# Altium schematic symbol library Schematic_Library_Warga.SchLib: 39 symbols
Pins are listed as number, name and electrical type; pins without a type are passive.

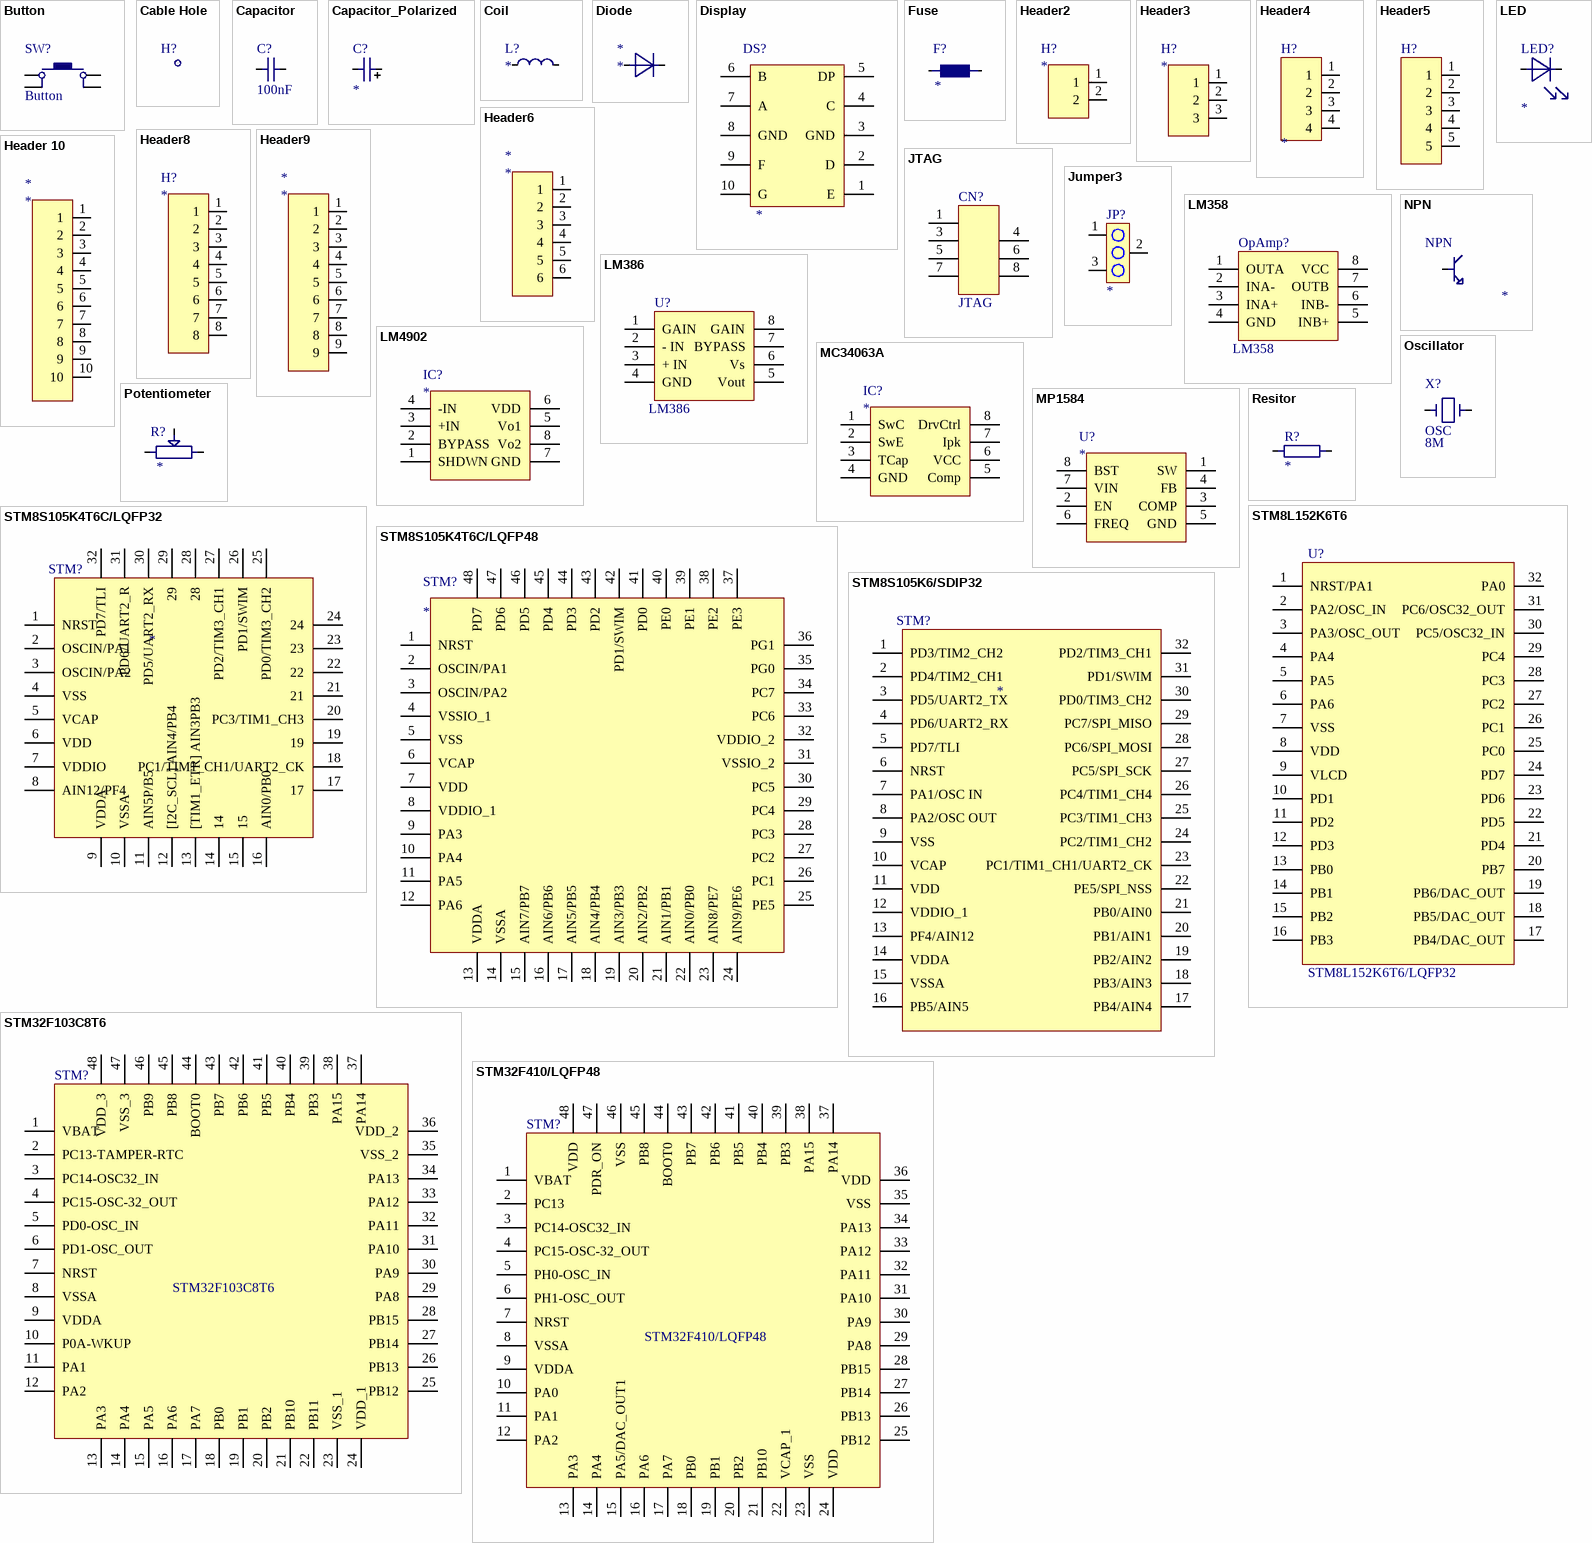
[diagram p0: symbols Button to STM32F410/LQFP48]

## Button
designator SW?
footprint TL1105 (Tactical Switch 6x6mm)
pins: 1, 1, 2, 2

## Cable Hole
designator H?
footprint Hole 1mm
pins: 1

## Capacitor
designator C?, comment 100nF
Capacitance: 100nF
footprint GRM188 (Chip Capacitor, 2-Leads, Body 1,60x0,80mm, IPC Medium Density)
footprint WurthElektronik88501206051
footprint VJ0603 (Chip Capacitor, 2-Leads, Body 1,60x0,80mm, IPC Medium Density)
footprint Capacitor 0.7mm unipol
pins: 1, 2

## Capacitor_Polarized
designator C?
Capacitance: *
pins: 1, 2

## Coil
designator L?
Inductance: *
footprint TYS6045331M (Chip Inductor, 2-Leads, Body 6,00x6,00mm, IPC Medium Density)
pins: 1, 2

## Diode
designator *
footprint DIODES-INCORPORATED_1N5819 (SODFL, 2-Leads, Body 1,55x3,70mm, IPC Medium Density)
pins: 1, 2

## Display
designator DS?
footprint HDSP-513A (7-segment LED display)
pins: 1 E, 2 D, 3 GND, 4 C, 5 DP, 6 B, 7 A, 8 GND, 9 F, 10 G

## Fuse
designator F?
IN: *
footprint RESC0603X04N (Chip Resistor, 2-Leads, Body 0,60x0,30mm, IPC Medium Density)
pins: 0, 1

## Header2
designator H?
footprint M20-97702 (Tactical Switch 6x6mm)
pins: 1, 2

## Header3
designator H?
pins: 1, 2, 3

## Header4
designator H?
footprint M20-97704 (4x1mm holes 2.54mm pitch)
pins: 1, 2, 3, 4

## Header5
designator H?  (value not drawn)
footprint M20-97705 (5x1mm holes 2.54mm pitch)
pins: 1, 2, 3, 4, 5

## Header6
designator *
pins: 1, 2, 3, 4, 5, 6

## Header8
designator H?
pins: 1, 2, 3, 4, 5, 6, 7, 8

## Header9
designator *
pins: 1, 2, 3, 4, 5, 6, 7, 8, 9

## Header 10
designator *
pins: 1, 2, 3, 4, 5, 6, 7, 8, 9, 10

## JTAG
designator CN?
footprint JTAG (2x4x1mm holes 2.54mm pitch)
pins: 1, 3, 4, 5, 6, 7, 8

## Jumper3
designator JP?
footprint M20-97703 (3x1mm holes 2.54mm pitch)
pins: 1, 2, 3

## LED
designator LED?
footprint ATP2012 (Chip Diode, 2-Leads, Body 2,00x1,25mm, IPC Medium Density)
pins: 1, 2

## LM358
designator OpAmp?
footprint LM358 SOIC (SOIC, 8-Leads, Body 4,90x3,90mm, Pitch 1,27mm, IPC Medium Density)
pins: 1 OUTA, 2 INA-, 3 INA+, 4 GND, 5 INB+, 6 INB-, 7 OUTB, 8 VCC

## LM386
designator U?
Low Voltage Audio Power Amplifier
footprint LM358 SOIC (SOIC, 8-Leads, Body 4,90x3,90mm, Pitch 1,27mm, IPC Medium Density)
pins: 1 GAIN "Gain setting pin", 2 - IN "Inverting input", 3 + IN "Noninverting input", 4 GND, 5 Vout, 6 Vs, 7 BYPASS, 8 GAIN

## LM4902
designator IC?
footprint LM4902/VSSOP (TSOP, 8-Leads, Body 3,00x3,00mm, Pitch 0,65mm, IPC Medium Density)
pins: 1 SHDWN, 2 BYPASS, 3 +IN, 4 -IN, 5 Vo1, 6 VDD, 7 GND, 8 Vo2

## MC34063A
designator IC?
footprint SOIC127P600X175-8N (SOIC, 8-Leads, Body 4,90x3,90mm, Pitch 1,27mm, IPC Medium Density)
pins: 1 SwC, 2 SwE, 3 TCap, 4 GND, 5 Comp, 6 VCC, 7 Ipk, 8 DrvCtrl

## MP1584
designator U?
footprint SOIC127P600X175-8N (SOIC, 8-Leads, Body 4,90x3,90mm, Pitch 1,27mm, IPC Medium Density)
pins: 1 SW, 2 EN, 3 COMP, 4 FB, 5 GND, 6 FREQ, 7 VIN, 8 BST

## NPN
designator NPN
Resistance: *
footprint CRCW0603100KFKEAC (Chip Resistor, 2-Leads, Body 1,60x0,80mm, IPC Medium Density)
footprint SR733ATTER (Chip Resistor, 2-Leads, Body 6,30x3,10mm, IPC Medium Density)
footprint ERJ-PB3 (Chip Resistor, 2-Leads, Body 1,60x0,85mm, IPC Medium Density)
footprint CPF0603 (Chip Resistor, 2-Leads, Body 1,55x0,80mm, IPC Medium Density)
footprint ROHM_ESR03 (Chip Resistor, 2-Leads, Body 1,60x0,80mm, IPC Medium Density)
footprint CRCW0805 (Chip Resistor, 2-Leads, Body 2,00x1,25mm, IPC Medium Density)
footprint SUSUMU_RS2012 (Chip Resistor, 2-Leads, Body 2,00x1,28mm, IPC Medium Density)
footprint RCS0805 (Chip Resistor, 2-Leads, Body 2,05x1,22mm, IPC Medium Density)
footprint SG73P1J (Chip Resistor, 2-Leads, Body 1,60x0,80mm, IPC Medium Density)
footprint Axial 0.6
pins: 1 B "Base", 2 E, 2 C

## Oscillator
designator X?, comment OSC  Frequency: 8M
footprint SODFL1230X430-2N (SODFL, 2-Leads, Body 4,83x12,30mm, IPC Medium Density)
footprint SODFL1270X330-2N (SODFL, 2-Leads, Body 4,70x12,70mm, IPC Medium Density)
pins: 1, 2

## Potentiometer
designator R?
Resistance: *
footprint RK09K113
pins: 1, 2, 3

## Resitor
designator R?
Resistance: *
footprint CRCW0603100KFKEAC (Chip Resistor, 2-Leads, Body 1,60x0,80mm, IPC Medium Density)
footprint SR733ATTER (Chip Resistor, 2-Leads, Body 6,30x3,10mm, IPC Medium Density)
footprint ERJ-PB3 (Chip Resistor, 2-Leads, Body 1,60x0,85mm, IPC Medium Density)
footprint CPF0603 (Chip Resistor, 2-Leads, Body 1,55x0,80mm, IPC Medium Density)
footprint ROHM_ESR03 (Chip Resistor, 2-Leads, Body 1,60x0,80mm, IPC Medium Density)
footprint CRCW0805 (Chip Resistor, 2-Leads, Body 2,00x1,25mm, IPC Medium Density)
footprint SUSUMU_RS2012 (Chip Resistor, 2-Leads, Body 2,00x1,28mm, IPC Medium Density)
footprint RCS0805 (Chip Resistor, 2-Leads, Body 2,05x1,22mm, IPC Medium Density)
footprint SG73P1J (Chip Resistor, 2-Leads, Body 1,60x0,80mm, IPC Medium Density)
footprint Axial 0.6
footprint HP05W3J0104T5E (Chip Resistor, 2-Leads, Body 2,00x1,27mm, IPC Medium Density)
pins: 1, 2

## STM8L152K6T6
designator U?, comment STM8L152K6T6/LQFP32
footprint TQFP80P900X900X160-32N (TQFP, 32-Leads, Body 7,00x7,00mm, Pitch 0,80mm, IPC Medium Density)
pins: 1 NRST/PA1 "Reset", 2 PA2/OSC_IN "Port A2", 3 PA3/OSC_OUT, 4 PA4, 5 PA5, 6 PA6, 7 VSS, 8 VDD, 9 VLCD, 10 PD1, 11 PD2, 12 PD3, 13 PB0, 14 PB1, 15 PB2, 16 PB3, 17 PB4/DAC_OUT, 18 PB5/DAC_OUT, 19 PB6/DAC_OUT, 20 PB7, 21 PD4, 22 PD5, 23 PD6, 24 PD7, 25 PC0, 26 PC1, 27 PC2, 28 PC3, 29 PC4, 30 PC5/OSC32_IN, 31 PC6/OSC32_OUT, 32 PA0

## STM8S105K4T6C/LQFP32
designator STM?
pins: 1 NRST "Reset", 2 OSCIN/PA1 "Port A1", 3 OSCIN/PA2 "Port A1", 4 VSS "Digital ground", 5 VCAP "1.8V regulator capacitor", 6 VDD "Digital power supply", 7 VDDIO "I/O power supply", 8 AIN12/PF4 "Port F4", 9 VDDA "Analog power supply", 10 VSSA "Analog ground", 11 AIN5P/B5 "Port B5", 12 [I2C_SCL] AIN4/PB4, 13 [TIM1_ETR] AIN3PB3, 14, 15, 16 AIN0/PB0 "Port B0", 17, 18 PC1/TIM1_CH1/UART2_CK, 19, 20 PC3/TIM1_CH3, 21, 22, 23, 24, 25 PD0/TIM3_CH2, 26 PD1/SWIM, 27 PD2/TIM3_CH1, 28, 29, 30 PD5/UART2_RX, 31 PD6/UART2_R, 32 PD7/TLI

## STM8S105K4T6C/LQFP48
designator STM?
footprint TSQFP50P900X900X160-48N (TSQFP, 48-Leads, Body 7,00x7,00mm, Pitch 0,50mm, IPC Medium Density)
pins: 1 NRST "Reset", 2 OSCIN/PA1 "Port A1", 3 OSCIN/PA2 "Port A1", 4 VSSIO_1 "Digital ground", 5 VSS "1.8V regulator capacitor", 6 VCAP "Digital power supply", 7 VDD "I/O power supply", 8 VDDIO_1 "Port F4", 9 PA3 "Analog power supply", 10 PA4 "Analog ground", 11 PA5 "Port B5", 12 PA6, 13 VDDA, 14 VSSA, 15 AIN7/PB7, 16 AIN6/PB6 "Port B0", 17 AIN5/PB5, 18 AIN4/PB4, 19 AIN3/PB3, 20 AIN2/PB2, 21 AIN1/PB1, 22 AIN0/PB0, 23 AIN8/PE7, 24 AIN9/PE6, 25 PE5, 26 PC1, 27 PC2, 28 PC3, 29 PC4, 30 PC5, 31 VSSIO_2, 32 VDDIO_2, 33 PC6, 34 PC7, 35 PG0, 36 PG1, 37 PE3, 38 PE2, 39 PE1, 40 PE0, 41 PD0, 42 PD1/SWIM, 43 PD2, 44 PD3, 45 PD4, 46 PD5, 47 PD6, 48 PD7

## STM8S105K6/SDIP32
designator STM?
footprint SDIP32
pins: 1 PD3/TIM2_CH2, 2 PD4/TIM2_CH1, 3 PD5/UART2_TX, 4 PD6/UART2_RX, 5 PD7/TLI, 6 NRST "Reset", 7 PA1/OSC IN "Port A1/Crystal in", 8 PA2/OSC OUT "Port A2/Crystal out", 9 VSS "Digital ground", 10 VCAP "1.8V regulator capacitor", 11 VDD "Digital power supply", 12 VDDIO_1 "I/O power supply", 13 PF4/AIN12 "Port F4/AIN 12", 14 VDDA "Analog power supply", 15 VSSA "Analog ground", 16 PB5/AIN5 "Port PB5/Analog input 5", 17 PB4/AIN4 "Port B4/Analog input 4", 18 PB3/AIN3 "Port B3/Analog input 3", 19 PB2/AIN2 "Port PB2/Analog input 2", 20 PB1/AIN1 "Port PB1/Analog input 1", 21 PB0/AIN0 "Port PB0/Analog input 0", 22 PE5/SPI_NSS "Port E5/SPI master/slave select", 23 PC1/TIM1_CH1/UART2_CK "Port C1/Timer 1 - channel 1/UART2 synchronous clock", 24 PC2/TIM1_CH2 "Port C2/Timer 1- channer 2", 25 PC3/TIM1_CH3 "Port C3/Timer 1- channer 3", 26 PC4/TIM1_CH4 "Port C4/Timer 1- channer 4", 27 PC5/SPI_SCK "Port C5/SPI clock", 28 PC6/SPI_MOSI "Port C6/SPI master out/slave in", 29 PC7/SPI_MISO "Port C7/SPI master in/slave out", 30 PD0/TIM3_CH2 "Port D0/Timer 3 - channel 2", 31 PD1/SWIM "SWIM data interface", 32 PD2/TIM3_CH1 "Port D2/Timer 3 - channel 1"

## STM32F103C8T6
designator STM?
pins: 1 VBAT "Reset", 2 PC13-TAMPER-RTC "Port A1", 3 PC14-OSC32_IN "Port A1", 4 PC15-OSC-32_OUT "Digital ground", 5 PD0-OSC_IN "1.8V regulator capacitor", 6 PD1-OSC_OUT "Digital power supply", 7 NRST "I/O power supply", 8 VSSA "Port F4", 9 VDDA "Analog power supply", 10 P0A-WKUP "Analog ground", 11 PA1 "Port B5", 12 PA2, 13 PA3, 14 PA4, 15 PA5, 16 PA6 "Port B0", 17 PA7, 18 PB0, 19 PB1, 20 PB2, 21 PB10, 22 PB11, 23 VSS_1, 24 VDD_1, 25 PB12, 26 PB13, 27 PB14, 28 PB15, 29 PA8, 30 PA9, 31 PA10, 32 PA11, 33 PA12, 34 PA13, 35 VSS_2, 36 VDD_2, 37 PA14, 38 PA15, 39 PB3, 40 PB4, 41 PB5, 42 PB6, 43 PB7, 44 BOOT0, 45 PB8, 46 PB9, 47 VSS_3, 48 VDD_3

## STM32F410/LQFP48
designator STM?
pins: 1 VBAT, 2 PC13, 3 PC14-OSC32_IN, 4 PC15-OSC-32_OUT, 5 PH0-OSC_IN, 6 PH1-OSC_OUT, 7 NRST, 8 VSSA "Analog ground", 9 VDDA "Analog power supply", 10 PA0, 11 PA1, 12 PA2, 13 PA3, 14 PA4, 15 PA5/DAC_OUT1, 16 PA6, 17 PA7, 18 PB0, 19 PB1, 20 PB2, 21 PB10, 22 VCAP_1, 23 VSS, 24 VDD, 25 PB12, 26 PB13, 27 PB14, 28 PB15, 29 PA8, 30 PA9, 31 PA10, 32 PA11, 33 PA12, 34 PA13, 35 VSS, 36 VDD, 37 PA14, 38 PA15, 39 PB3, 40 PB4, 41 PB5, 42 PB6, 43 PB7, 44 BOOT0, 45 PB8, 46 VSS, 47 PDR_ON, 48 VDD

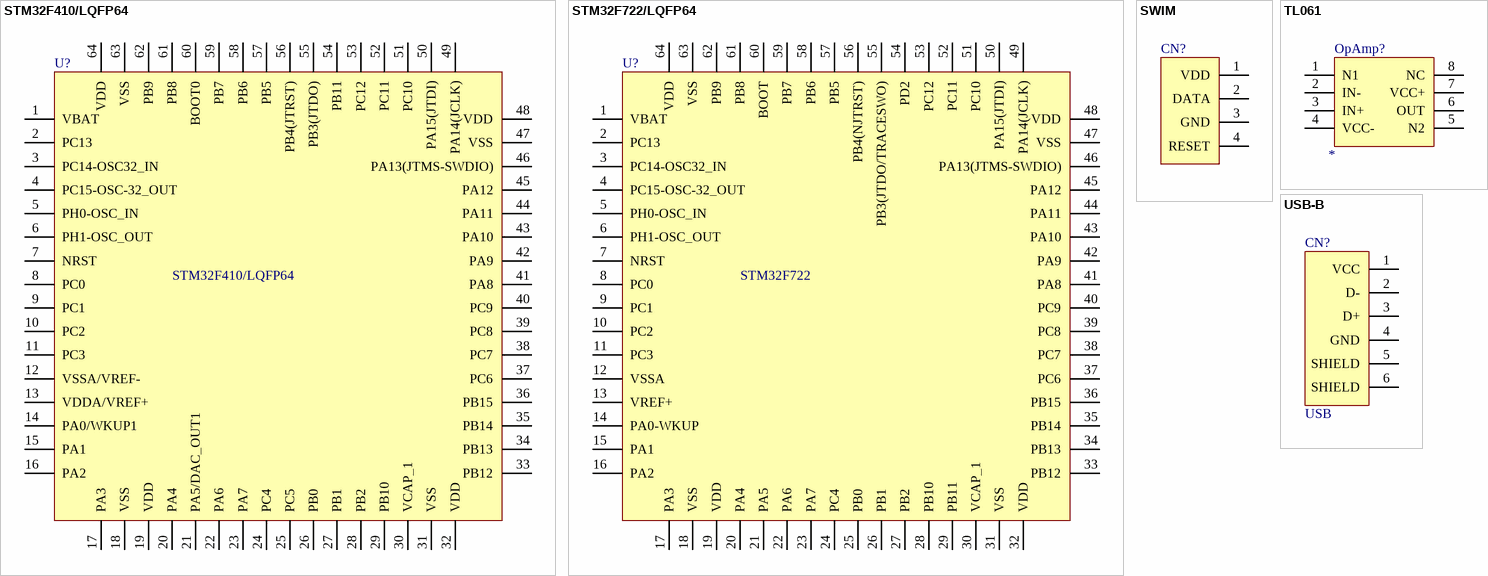
[diagram p1: symbols STM32F410/LQFP64 to USB-B]

## STM32F410/LQFP64
designator U?
footprint STM32F410/LQFP64 (TSQFP, 64-Leads, Body 10,00x10,00mm, Pitch 0,50mm, IPC Medium Density)
pins: 1 VBAT, 2 PC13, 3 PC14-OSC32_IN, 4 PC15-OSC-32_OUT, 5 PH0-OSC_IN, 6 PH1-OSC_OUT, 7 NRST, 8 PC0, 9 PC1, 10 PC2, 11 PC3, 12 VSSA/VREF-, 13 VDDA/VREF+, 14 PA0/WKUP1, 15 PA1, 16 PA2 "Port B0", 17 PA3, 18 VSS, 19 VDD, 20 PA4, 21 PA5/DAC_OUT1, 22 PA6, 23 PA7, 24 PC4, 25 PC5, 26 PB0, 27 PB1, 28 PB2, 29 PB10, 30 VCAP_1, 31 VSS, 32 VDD, 33 PB12, 34 PB13, 35 PB14, 36 PB15, 37 PC6, 38 PC7, 39 PC8, 40 PC9, 41 PA8, 42 PA9, 43 PA10, 44 PA11, 45 PA12, 46 PA13(JTMS-SWDIO), 47 VSS, 48 VDD, 49 PA14(JCLK) "SWCLK", 50 PA15(JTDI), 51 PC10, 52 PC11, 53 PC12, 54 PB11, 55 PB3(JTDO), 56 PB4(JTRST), 57 PB5, 58 PB6, 59 PB7, 60 BOOT0, 61 PB8, 62 PB9, 63 VSS, 64 VDD

## STM32F722/LQFP64
designator U?, comment STM32F722
pins: 1 VBAT, 2 PC13, 3 PC14-OSC32_IN, 4 PC15-OSC-32_OUT, 5 PH0-OSC_IN, 6 PH1-OSC_OUT, 7 NRST, 8 PC0, 9 PC1, 10 PC2, 11 PC3, 12 VSSA, 13 VREF+, 14 PA0-WKUP, 15 PA1, 16 PA2 "Port B0", 17 PA3, 18 VSS, 19 VDD, 20 PA4, 21 PA5, 22 PA6, 23 PA7, 24 PC4, 25 PB0, 26 PB1, 27 PB2, 28 PB10, 29 PB11, 30 VCAP_1, 31 VSS, 32 VDD, 33 PB12, 34 PB13, 35 PB14, 36 PB15, 37 PC6, 38 PC7, 39 PC8, 40 PC9, 41 PA8, 42 PA9, 43 PA10, 44 PA11, 45 PA12, 46 PA13(JTMS-SWDIO), 47 VSS, 48 VDD, 49 PA14(JCLK), 50 PA15(JTDI), 51 PC10, 52 PC11, 53 PC12, 54 PD2, 55 PB3(JTDO/TRACESWO), 56 PB4(NJTRST), 57 PB5, 58 PB6, 59 PB7, 60 BOOT, 61 PB8, 62 PB9, 63 VSS, 64 VDD

## SWIM
designator CN?
pins: 1 VDD, 2 DATA, 3 GND, 4 RESET

## TL061
designator OpAmp?
footprint SOIC127P600X175-8N (SOIC, 8-Leads, Body 4,90x3,90mm, Pitch 1,27mm, IPC Medium Density)
pins: 1 N1, 2 IN-, 3 IN+, 4 VCC-, 5 N2, 6 OUT, 7 VCC+, 8 NC

## USB-B
designator CN?, comment USB
pins: 1 VCC, 2 D-, 3 D+, 4 GND, 5 SHIELD, 6 SHIELD